# Altium integrated library 2019-10-18_12-32-40.IntLib: 2 symbols
Pins are listed as number, name and electrical type; pins without a type are passive.

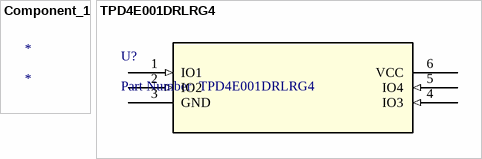
[diagram p0: symbols Component_1 to TPD4E001DRLRG4]

## Component_1
designator *

## TPD4E001DRLRG4
designator U?, comment Part Number: TPD4E001DRLRG4
No Description Available; Vendor: Texas Instruments; Built_By: EMA_UL_Team; Manufacturer_Part_Number: TPD4E001DRLRG4; Copyright: Copyright (C) 2018 Accelerated Designs. All rights reserved; RefDes: RefDes; Type: DEV; Value: Value
footprint DRL6
pins: 1 IO1 (in), 2 IO2 (in), 3 GND (power), 4 IO3 (in), 5 IO4 (in), 6 VCC (power)